# EAGLE library part TPS63001-BUCK-BOOST_CONVERTER (library Custom)
High efficient single inductor buck-boost converter with 1.8A switches
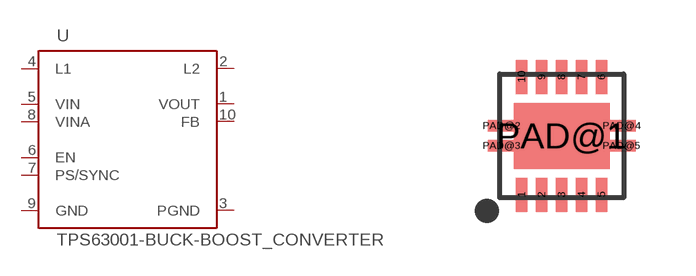
[diagram p15: symbol with the pads of QFN-10; footprint QFN-10]

Designator prefix U

## TPS63001-BUCK-BOOST_CONVERTER  [QFN-10]
1  VOUT  out
2  L2
3  PGND  pwr
4  L1
5  VIN  pwr
6  EN  in
7  PS/SYNC  in
8  VINA  pwr
9  GND  pwr
10  FB  in

## Footprint QFN-10 (pad centres in mm)
smd 0.28 x 0.85: 1 -1,-1.475; 2 -0.5,-1.475; 3 0,-1.475; 4 0.5,-1.475; 5 1,-1.475; 6 1,1.475; 7 0.5,1.475; 8 0,1.475; 9 -0.5,1.475; 10 -1,1.475
smd 2.4 x 1.65: PAD@1 0,0
smd 0.7 x 0.28: PAD@2 -1.5,0.25; PAD@3 -1.5,-0.25; PAD@4 1.5,0.25; PAD@5 1.5,-0.25